# Altium schematic symbol library DMA56405.SchLib: 1 symbol
Pins are listed as number, name and electrical type; pins without a type are passive.

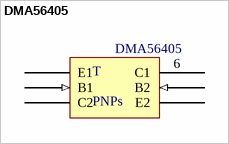
[diagram p0: symbol DMA56405]

## DMA56405
designator T, comment PNPs
2 PNPs with internal base 10k resistor
footprint SOTFL65P210X71-6N (SOTFL, 6-Leads, Body 2.00x2.10mm, Pitch 0.65mm, IPC Medium Density)
pins: 1 E1, 2 B1 (in), 3 C2, 4 E2, 5 B2 (in), 6 C1